# EAGLE library part 74HC4052 (library fram)
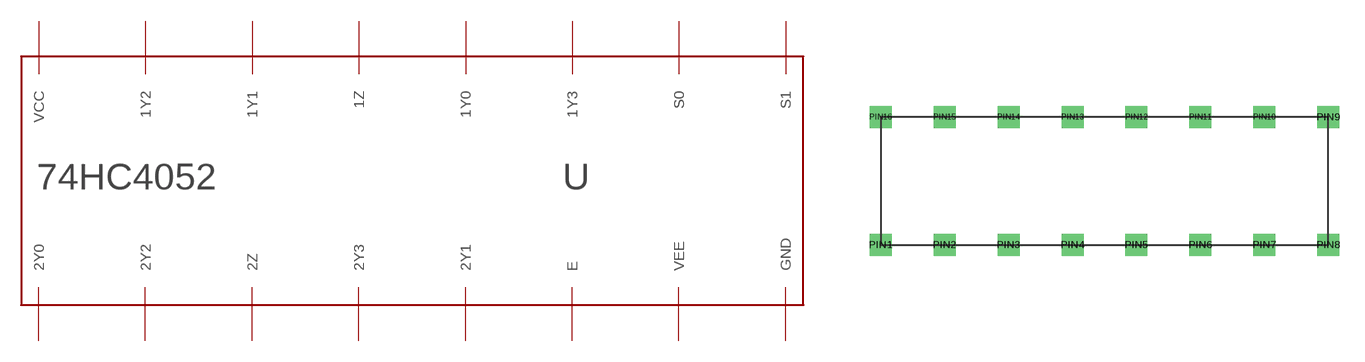
[diagram p2: symbol with the pads of DIP16; footprint DIP16]

Designator prefix -

## 74HC4052  [DIP16]
PIN1  2Y0
PIN2  2Y2
PIN3  2Z
PIN4  2Y3
PIN5  2Y1
PIN6  E  pas
PIN7  VEE  pwr
PIN8  GND  pwr
PIN9  S1  in
PIN10  S0  in
PIN11  1Y3
PIN12  1Y0
PIN13  1Z
PIN14  1Y1
PIN15  1Y2
PIN16  VCC  pwr

## Footprint DIP16 (pad centres in mm)
drill 0.8 square: PIN1 -12.7,-3.81; PIN2 -8.89,-3.81; PIN3 -5.08,-3.81; PIN4 -1.27,-3.81; PIN5 2.54,-3.81; PIN6 6.35,-3.81; PIN7 10.16,-3.81; PIN8 13.97,-3.81; PIN9 13.97,3.81; PIN10 10.16,3.81; PIN11 6.35,3.81; PIN12 2.54,3.81; PIN13 -1.27,3.81; PIN14 -5.08,3.81; PIN15 -8.89,3.81; PIN16 -12.7,3.81